# Altium footprint library Footprints.PcbLib: 11 footprints
Each footprint in its own frame and in the unit in brackets; x right, y up, seen from the top. Pads: shape width x height; smd on the part's side, far side on the other; paste and mask are expansions set on the pad; w line width, h text height; cw(c..) or ccw(c..) is an arc to the next point about the centre after c.
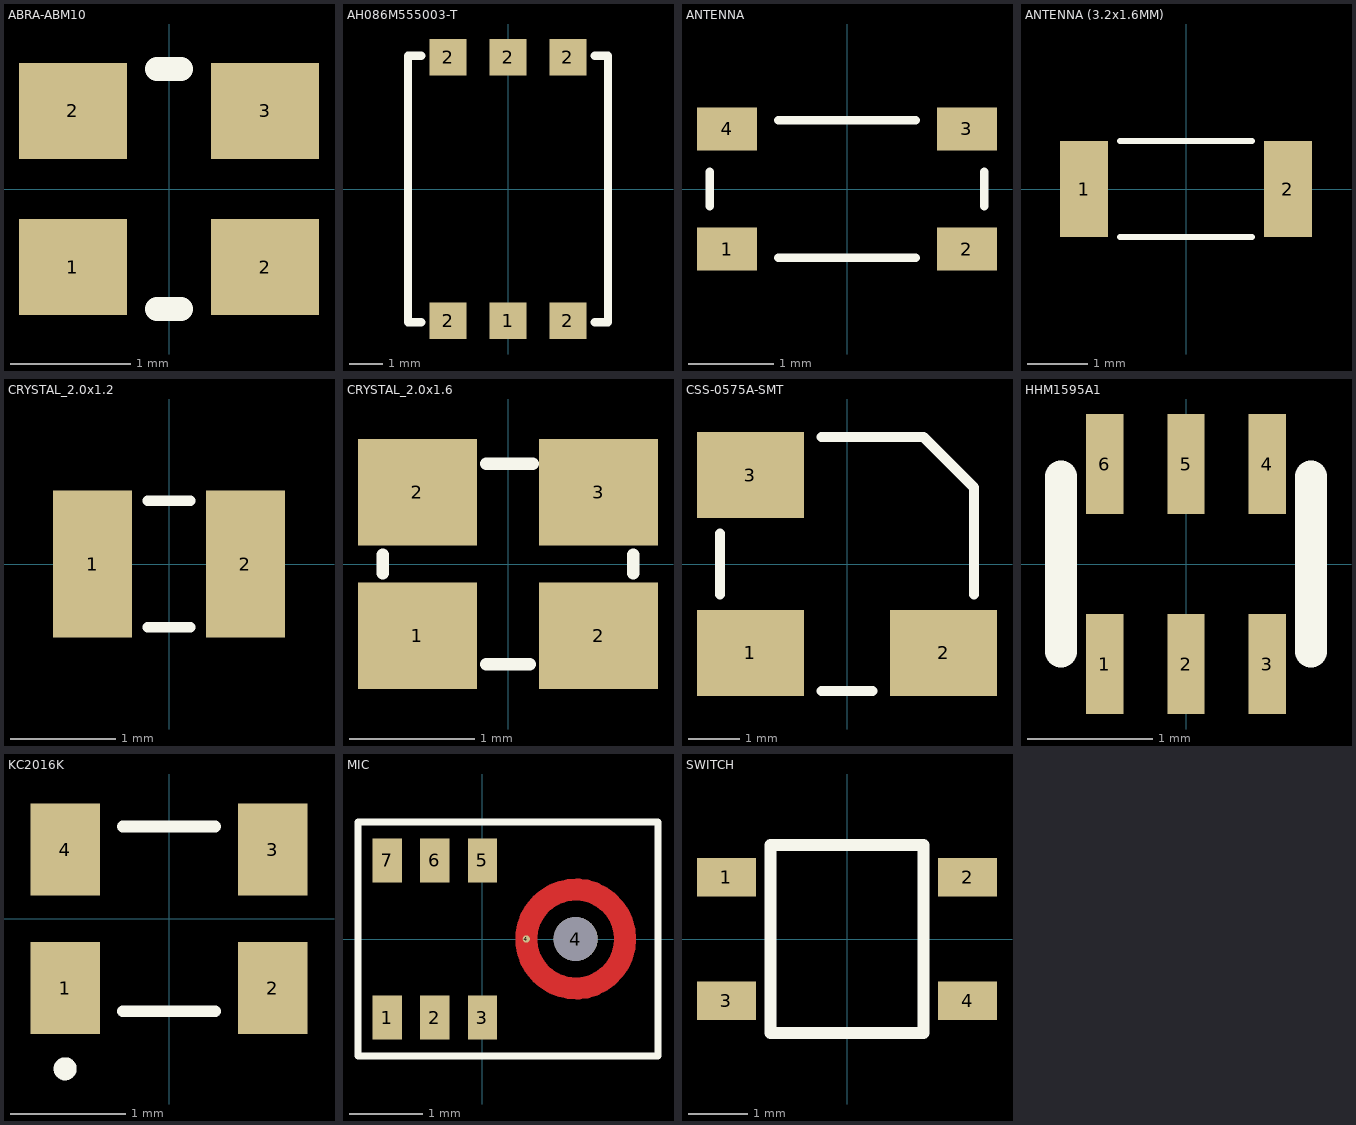
[diagram p0: the footprints below, top view; thin cyan lines are the x and y axes]

## ABRA-ABM10 [mm] "SMT Crystal, 4-Leads, Body 5.2x3.4mm"
pads (4):
  rect 0.9x0.8 smd: 1(-0.8,-0.65) 2(-0.8,0.65) 2(0.8,-0.65) 3(0.8,0.65)
Top Overlay:
  lines w0.2: -0.1,-1 0.1,-1 ; -0.1,1 0.1,1
3D body "ABM10.STEP": height 0.51, standoff 0, extent -1.245,-1.003 1.245,1.003

## AH086M555003-T [mm]
pads (6):
  rect 1.1x1.1 smd mask+0: 1(0,-3.95) 2(-1.8,-3.95) 2(-1.8,3.95) 2(0,3.95) 2(1.8,-3.95) 2(1.8,3.95)
Top Overlay:
  lines w0.254: -2.6,-4 -3,-4 -3,4 -2.6,4 ; 2.6,-4 3,-4 3,4 2.6,4
3D body: height 1, standoff 0, extent -3,-4 3,4

## ANTENNA [mm]
pads (4):
  rect 0.7x0.5 smd: 1(-1.4,-0.7) 2(1.4,-0.7) 3(1.4,0.7) 4(-1.4,0.7)
Top Overlay:
  lines w0.1: -1.6,-0.2 -1.6,0.2 ; -0.8,-0.8 0.8,-0.8 ; -0.8,0.8 0.8,0.8 ; 1.6,-0.2 1.6,0.2
3D body: height 1.2, standoff 0, extent -1.6,-0.8 1.6,0.8

## ANTENNA (3.2x1.6MM) [mm]
pads (2):
  rect 0.8x1.6 smd: 1(-1.7,0) 2(1.7,0)
Top Overlay:
  lines w0.1: -1.1,-0.8 1.1,-0.8 ; -1.1,0.8 1.1,0.8
3D body: height 1.3, standoff 0, extent -1.6,-0.8 1.6,0.8

## CRYSTAL_2.0x1.2 [mm]
pads (2):
  rect 0.75x1.4 smd mask+0: 1(-0.725,0) 2(0.725,0)
Top Overlay:
  lines w0.1: -0.2,-0.6 0.2,-0.6 ; -0.2,0.6 0.2,0.6
3D body "ABS06.STEP": height 0.61, standoff 0, extent -1.003,-0.597 1.003,0.597

## CRYSTAL_2.0x1.6 [mm]
pads (4):
  rect 0.95x0.85 smd mask+0: 1(-0.725,-0.575) 2(-0.725,0.575) 2(0.725,-0.575) 3(0.725,0.575)
Top Overlay:
  lines w0.1: -1,-0.075 -1,0.075 ; -0.175,-0.8 0.175,-0.8 ; -0.175,0.8 0.2,0.8 ; 1,-0.075 1,0.075

## CSS-0575A-SMT [mm]
pads (3):
  rect 2.1x1.7 smd: 1(-1.9,-1.75) 2(1.9,-1.75) 3(-1.9,1.75)
Top Overlay:
  lines w0.2: -2.5,-0.6 -2.5,0.6 ; -0.5,-2.5 0.5,-2.5 ; -0.5,2.5 1.5,2.5 2.5,1.5 2.5,-0.6
3D body "css-0575a-smt.stp": height 1.9, standoff 0, extent -2.5,-2.5 2.5,2.5

## HHM1595A1 [mm]
pads (6):
  rect 0.3x0.8 smd mask+0: 1(-0.65,-0.8) 2(0,-0.8) 3(0.65,-0.8) 4(0.65,0.8) 5(0,0.8) 6(-0.65,0.8)
Top Overlay:
  lines w0.254: -1,-0.7 -1,0.7 ; 1,-0.7 1,0.7
3D body: height 0.95, standoff 0, extent -1,-0.7 1,0.7

## KC2016K [mm]
pads (4):
  rect 0.6x0.8 smd: 1(-0.9,-0.6) 2(0.9,-0.6) 3(0.9,0.6) 4(-0.9,0.6)
Top Overlay:
  circle w0.1: c-0.9,-1.3 r0.05
  lines w0.1: -0.4,-0.8 0.4,-0.8 ; -0.4,0.8 0.4,0.8

## MIC [mm]
pads (8):
  rect 0.4x0.6 smd: 1(-1.3,-1.075) 2(-0.65,-1.075) 3(0,-1.075) 5(0,1.075) 6(-0.65,1.075) 7(-1.3,1.075)
  round 0.1 smd mask+0: 4(0.6,0)
  round 0.6 hole 0.6 unplated mask+0: 4(1.275,0)
Top Layer:
  circle w0.3: c1.275,0 r0.675
Top Overlay:
  lines w0.1: -1.7,-1.6 -1.7,1.6 2.4,1.6 2.4,-1.6 -1.7,-1.6
3D body: height 0.27, standoff 0, extent -1.625,-1.5 2.375,1.5
3D body: height 1, standoff 0.27, extent -1.525,-1.4 2.275,1.4

## SWITCH [mm]
pads (4):
  rect 1x0.65 smd: 1(-2.05,1.05) 2(2.05,1.05) 3(-2.05,-1.05) 4(2.05,-1.05)
Top Overlay:
  lines w0.2: -1.3,-1.6 1.3,-1.6 1.3,1.6 -1.3,1.6 -1.3,-1.6
3D body "PTS810.STEP": height 2.5, standoff 0, extent -2.3,-1.6 2.3,1.6